# Altium integrated library NSC Temperature Sensor.IntLib: 111 symbols (part 2 of 3)
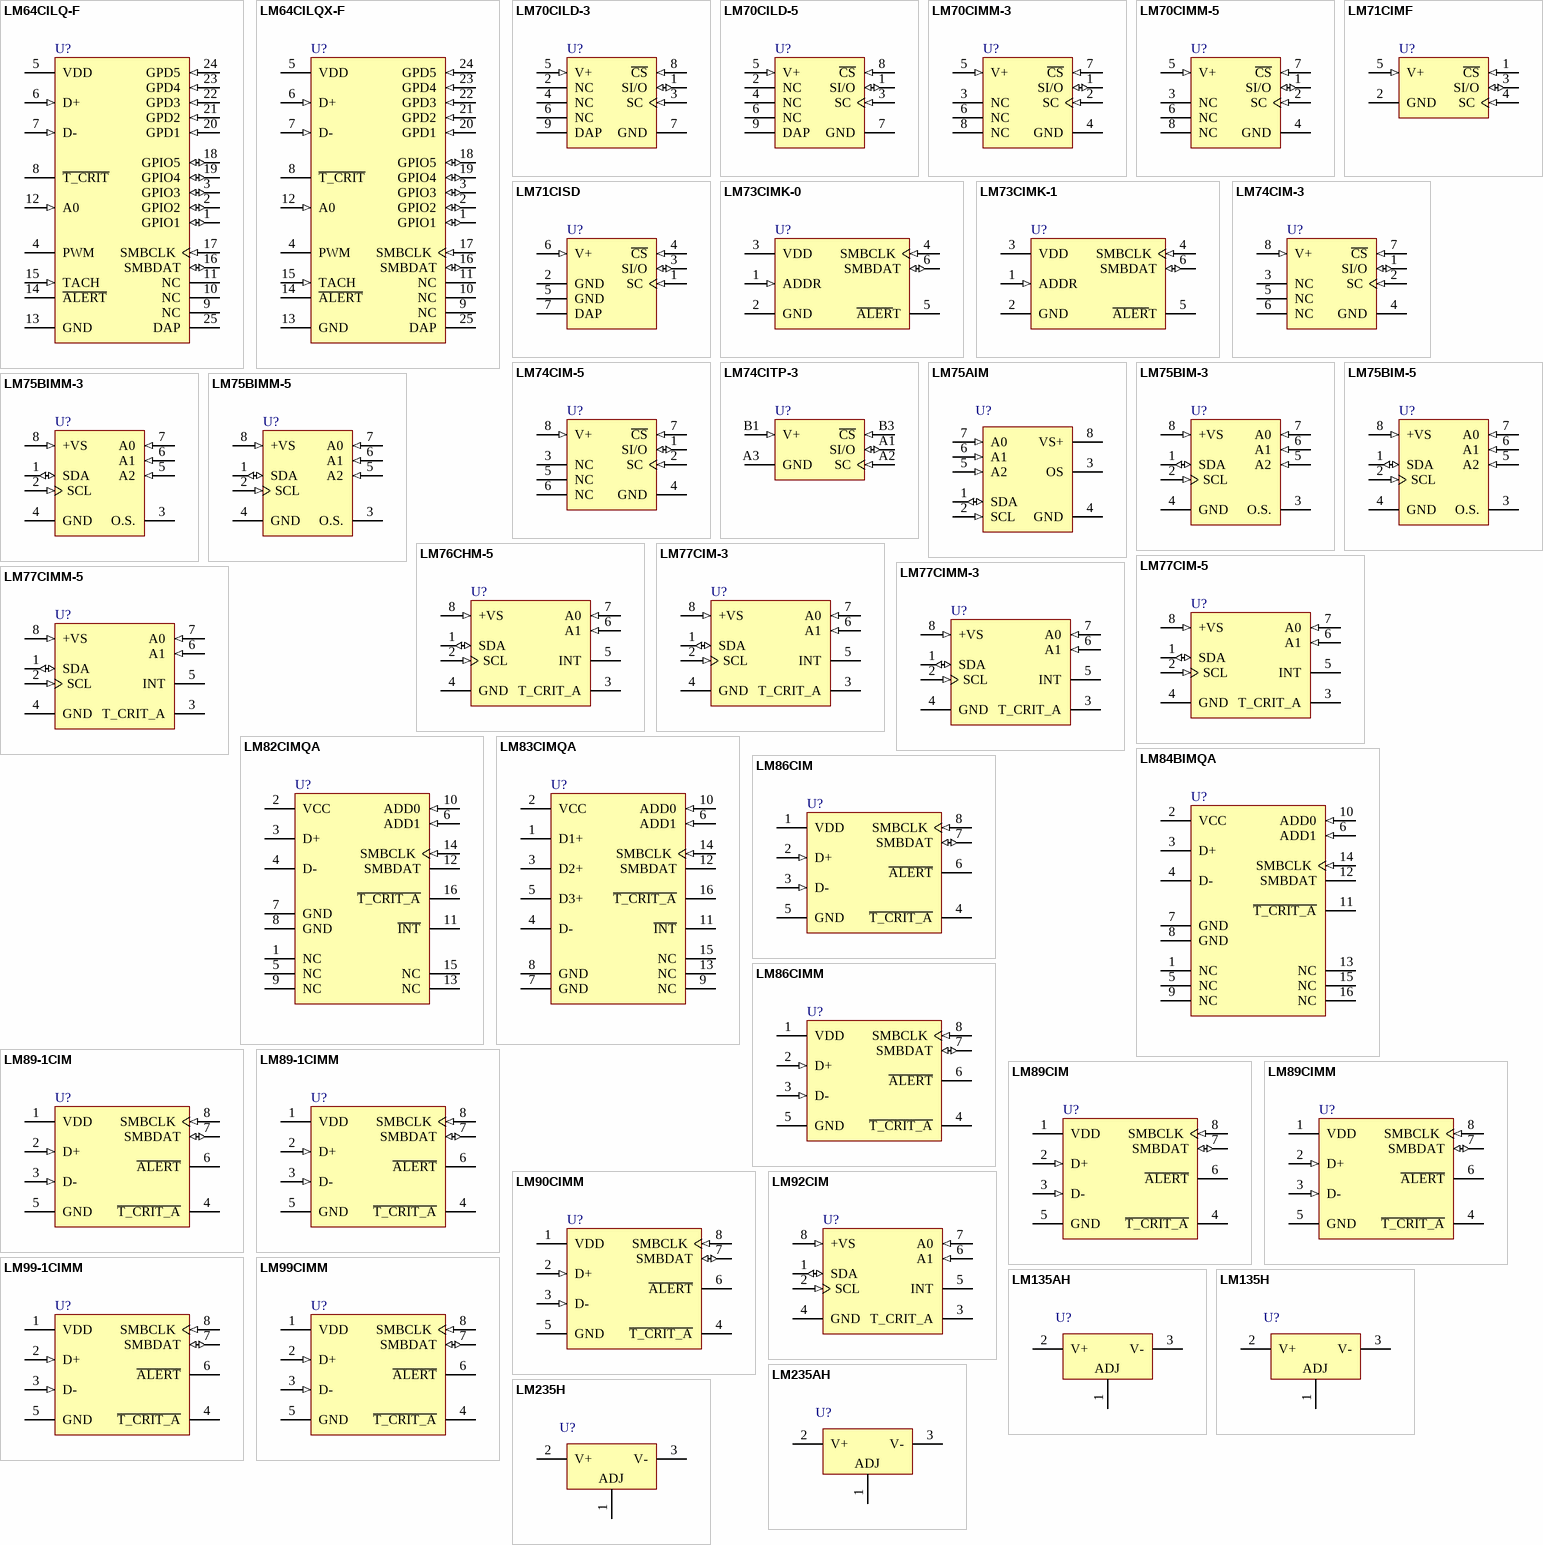
[diagram p3: symbols LM64CILQ-F to LM235H]

## LM71CIMF
designator U?
SPI/MICROWIRE 13-Bit Plus Sign Temperature Sensor; PartNumber: LM71CIMF; Manufacturer: National Semiconductor; CompType: Temp Sensor IC; PackageTopMarking: T16C*XTT; PowerWise: Y; Published: 4-Dec-2008; DatasheetVersion: Feb-2005; PackageVersion: revD, Aug-2008; PackageReference: MF05A; Publisher: Altium Limited; PackageDescription: Molded SOT-23, .115 x .063 x .040 in Body, 5 Lead, .0375 in Pitch; RoHS: O; PinCount: 5; DigiKeyPartNumber: LM71CIMFCT-ND; Code_IPC: SOT23-5; ComponentLink1Description: LM71 Datasheet; ComponentLink1URL: http://www.national.com/ds/LM/LM71.pdf; ComponentLink2Description: LM71 Web Page; ComponentLink2URL: http://www.national.com/pf/LM/LM71.html; ComponentLink3Description: MF05A Package Page; ComponentLink3URL: http://www.national.com/packaging/folders/mf05a.html
footprint MF05A_N (SOT23, 5-Leads, Body 2.9x1.6mm, Pitch 0.95mm, Lead Span 2.8mm, IPC Medium Density)
footprint MF05A_L (SOT23, 5-Leads, Body 2.9x1.6mm, Pitch 0.95mm, Lead Span 2.8mm, IPC High Density)
footprint MF05A_M (SOT23, 5-Leads, Body 2.9x1.6mm, Pitch 0.95mm, Lead Span 2.8mm, IPC Low Density)
pins: 1 ~{CS} (in), 2 GND (power), 3 SI/O (io), 4 SC (in), 5 V+ (in)

## LM71CISD
designator U?
SPI/MICROWIRE 13-Bit Plus Sign Temperature Sensor; PartNumber: LM71CISD; Manufacturer: National Semiconductor; CompType: Temp Sensor IC; PackageTopMarking: ZXYTT*L71CI; PowerWise: Y; Published: 4-Dec-2008; DatasheetVersion: Feb-2005; PackageVersion: revA, Jul-2003; PackageReference: SDE06A; Publisher: Altium Limited; PackageDescription: LLP, Plastic, Dual, 3 x 3 x 0.8mm Body, 6 Lead, 0.95mm Pitch, No Pullback; RoHS: Y; PinCount: 6; DigiKeyPartNumber: LM71CISDCT-ND; ComponentLink1Description: LM71 Datasheet; ComponentLink1URL: http://www.national.com/ds/LM/LM71.pdf; ComponentLink2Description: LM71 Web Page; ComponentLink2URL: http://www.national.com/pf/LM/LM71.html; ComponentLink3Description: SDE06A Package Page; ComponentLink3URL: http://www.national.com/packaging/folders/sde06a.html
footprint SDE06A_full (SON, 6-Leads, Body 3x3 mm, Pitch 0.95mm, Full Paste, NSC Recommended)
footprint SDE06A_quad (SON, 6-Leads, Body 3x3 mm, Pitch 0.95mm, Quad Paste, NSC Recommended)
pins: 1 SC (in), 2 GND (power), 3 SI/O (io), 4 ~{CS} (in), 5 GND (power), 6 V+ (in), 7 DAP (power)

## LM73CIMK-0
designator U?
2.7V, SOT-23, 11- to 14- Bit Digital Temperature Sensor with 2-Wire Interface; PartNumber: LM73CIMK-0; Manufacturer: National Semiconductor; CompType: Temp Sensor IC; PackageTopMarking: T730*XTT; PowerWise: Y; Published: 4-Dec-2008; DatasheetVersion: Jul-2006; PackageVersion: revD, Jul-2005; PackageReference: MK06A; Publisher: Altium Limited; PackageDescription: Molded TSOT, 2.97 x 1.65 x 0.87mm Body, 6 Lead, 0.95mm Pitch; RoHS: Y; PinCount: 6; DigiKeyPartNumber: LM73CIMK-0CT-ND; Code_JEDEC: MO-193-AA; Code_IPC: SOT26A-6; ComponentLink1Description: LM73 Datasheet; ComponentLink1URL: http://www.national.com/ds/LM/LM73.pdf; ComponentLink2Description: LM73 Web Page; ComponentLink2URL: http://www.national.com/pf/LM/LM73.html; ComponentLink3Description: MK06A Package Page; ComponentLink3URL: http://www.national.com/packaging/folders/mk06a.html
footprint MK06A_N (SOT23, 6-Leads, Body 3.0x1.7mm, Pitch 0.95mm, Lead Span 2.9mm, IPC Medium Density)
footprint MK06A_L (SOT23, 6-Leads, Body 3.0x1.7mm, Pitch 0.95mm, Lead Span 2.9mm, IPC High Density)
footprint MK06A_M (SOT23, 6-Leads, Body 3.0x1.7mm, Pitch 0.95mm, Lead Span 2.9mm, IPC Low Density)
pins: 1 ADDR (in), 2 GND (power), 3 VDD (power), 4 SMBCLK (in), 5 ~{ALER}T (oc), 6 SMBDAT (io)

## LM73CIMK-1
designator U?
2.7V, SOT-23, 11- to 14- Bit Digital Temperature Sensor with 2-Wire Interface; PartNumber: LM73CIMK-1; Manufacturer: National Semiconductor; CompType: Temp Sensor IC; PackageTopMarking: T731*XTT; PowerWise: Y; Published: 4-Dec-2008; DatasheetVersion: Jul-2006; PackageVersion: revD, Jul-2005; PackageReference: MK06A; Publisher: Altium Limited; PackageDescription: Molded TSOT, 2.97 x 1.65 x 0.87mm Body, 6 Lead, 0.95mm Pitch; RoHS: Y; PinCount: 6; DigiKeyPartNumber: LM73CIMK-1CT-ND; Code_JEDEC: MO-193-AA; Code_IPC: SOT26A-6; ComponentLink1Description: LM73 Datasheet; ComponentLink1URL: http://www.national.com/ds/LM/LM73.pdf; ComponentLink2Description: LM73 Web Page; ComponentLink2URL: http://www.national.com/pf/LM/LM73.html; ComponentLink3Description: MK06A Package Page; ComponentLink3URL: http://www.national.com/packaging/folders/mk06a.html
footprint MK06A_N (SOT23, 6-Leads, Body 3.0x1.7mm, Pitch 0.95mm, Lead Span 2.9mm, IPC Medium Density)
footprint MK06A_L (SOT23, 6-Leads, Body 3.0x1.7mm, Pitch 0.95mm, Lead Span 2.9mm, IPC High Density)
footprint MK06A_M (SOT23, 6-Leads, Body 3.0x1.7mm, Pitch 0.95mm, Lead Span 2.9mm, IPC Low Density)
pins: 1 ADDR (in), 2 GND (power), 3 VDD (power), 4 SMBCLK (in), 5 ~{ALER}T (oc), 6 SMBDAT (io)

## LM74CIM-3
designator U?
SPI/MICROWIRE 12-Bit Plus Sign Temperature Sensor; PartNumber: LM74CIM-3; Manufacturer: National Semiconductor; CompType: Temp Sensor IC; PackageTopMarking: NSZXTT*LM74*CIM3; PowerWise: N; Published: 4-Dec-2008; DatasheetVersion: May-2005; PackageVersion: revL, Sep-2006; PackageReference: M08A; Publisher: Altium Limited; PackageDescription: SOIC Narrow, 4.9 x 3.9 x 1.45mm, 8 Lead, 1.27mm Pitch; RoHS: O; PinCount: 8; DigiKeyPartNumber: LM74CIM-3-ND; Code_JEDEC: MS-012-AA; Code_IPC: SOIC127P600-8; ComponentLink1Description: LM74 Datasheet; ComponentLink1URL: http://www.national.com/ds/LM/LM74.pdf; ComponentLink2Description: LM74 Web Page; ComponentLink2URL: http://www.national.com/pf/LM/LM74.html; ComponentLink3Description: M08A Package Page; ComponentLink3URL: http://www.national.com/packaging/folders/m08a.html
footprint M08A_N (SOIC, 8-Leads, Body 4.9x3.9mm, Pitch 1.27mm, IPC Medium Density)
footprint M08A_L (SOIC, 8-Leads, Body 4.9x3.9mm, Pitch 1.27mm, IPC High Density)
footprint M08A_M (SOIC, 8-Leads, Body 4.9x3.9mm, Pitch 1.27mm, IPC Low Density)
pins: 1 SI/O (io), 2 SC (in), 3 NC, 4 GND (power), 5 NC, 6 NC, 7 ~{CS} (in), 8 V+ (in)

## LM74CIM-5
designator U?
SPI/MICROWIRE 12-Bit Plus Sign Temperature Sensor; PartNumber: LM74CIM-5; Manufacturer: National Semiconductor; CompType: Temp Sensor IC; PackageTopMarking: NSZXTT*LM74*CIM5; PowerWise: N; Published: 4-Dec-2008; DatasheetVersion: May-2005; PackageVersion: revL, Sep-2006; PackageReference: M08A; Publisher: Altium Limited; PackageDescription: SOIC Narrow, 4.9 x 3.9 x 1.45mm, 8 Lead, 1.27mm Pitch; RoHS: O; PinCount: 8; DigiKeyPartNumber: LM74CIM-5-ND; Code_JEDEC: MS-012-AA; Code_IPC: SOIC127P600-8; ComponentLink1Description: LM74 Datasheet; ComponentLink1URL: http://www.national.com/ds/LM/LM74.pdf; ComponentLink2Description: LM74 Web Page; ComponentLink2URL: http://www.national.com/pf/LM/LM74.html; ComponentLink3Description: M08A Package Page; ComponentLink3URL: http://www.national.com/packaging/folders/m08a.html
footprint M08A_N (SOIC, 8-Leads, Body 4.9x3.9mm, Pitch 1.27mm, IPC Medium Density)
footprint M08A_L (SOIC, 8-Leads, Body 4.9x3.9mm, Pitch 1.27mm, IPC High Density)
footprint M08A_M (SOIC, 8-Leads, Body 4.9x3.9mm, Pitch 1.27mm, IPC Low Density)
pins: 1 SI/O (io), 2 SC (in), 3 NC, 4 GND (power), 5 NC, 6 NC, 7 ~{CS} (in), 8 V+ (in)

## LM74CITP-3
designator U?
SPI/MICROWIRE 12-Bit Plus Sign Temperature Sensor; PartNumber: LM74CITP-3; Manufacturer: National Semiconductor; CompType: Temp Sensor IC; PackageTopMarking: XV*I 10; PowerWise: N; Published: 4-Dec-2008; DatasheetVersion: May-2005; PackageVersion: revA, Apr-2005; PackageReference: TPD05QSA; Publisher: Altium Limited; PackageDescription: Thin Micro SMD, 5 Bump, 1.0mm Pitch; RoHS: Y; PinCount: 5; DigiKeyPartNumber: LM74CITP-3-ND; ComponentLink1Description: LM74 Datasheet; ComponentLink1URL: http://www.national.com/ds/LM/LM74.pdf; ComponentLink2Description: LM74 Web Page; ComponentLink2URL: http://www.national.com/pf/LM/LM74.html; ComponentLink3Description: TPD05QSA Package Page; ComponentLink3URL: http://www.national.com/packaging/folders/tpd05qsa.html
footprint TPD05QSA (Micro SMD, 5-Leads, Body 1.59x1.64mm, Pitch 0.5mm, NSC Recommended)
pins: A1 SI/O (io), A2 SC (in), A3 GND (power), B1 V+ (in), B3 ~{CS} (in)

## LM75AIM
designator U?
Digital Temperature Sensor and Thermal Watchdog with Two-Wire Interface; PartNumber: LM75AIM; Manufacturer: National Semiconductor; CompType: Temp Sensor IC; PackageTopMarking: NSZXTT*LM75*AIM; PowerWise: N; Published: 29-May-2009; DatasheetVersion: Jan-2009; PackageVersion: revL, Sep-2006; PackageReference: M08A; Publisher: Altium Limited; PackageDescription: SOIC Narrow, 4.9 x 3.9 x 1.45mm, 8 Lead, 1.27mm Pitch; RoHS: Y; PinCount: 8; DigiKeyPartNumber: LM75AIM-ND; Code_JEDEC: MS-012-AA; Code_IPC: SOIC127P600-8; ComponentLink1Description: LM75 Datasheet; ComponentLink1URL: http://www.national.com/ds/LM/LM75.pdf; ComponentLink2Description: LM75 Web Page; ComponentLink2URL: http://www.national.com/pf/LM/LM75.html; ComponentLink3Description: M08A Package Page; ComponentLink3URL: http://www.national.com/packaging/folders/m08a.html
footprint M08A_N (SOIC, 8-Leads, Body 4.9x3.9mm, Pitch 1.27mm, IPC Medium Density)
footprint M08A_L (SOIC, 8-Leads, Body 4.9x3.9mm, Pitch 1.27mm, IPC High Density)
footprint M08A_M (SOIC, 8-Leads, Body 4.9x3.9mm, Pitch 1.27mm, IPC Low Density)
pins: 1 SDA (io), 2 SCL (in), 3 OS (oc), 4 GND (power), 5 A2 (in), 6 A1 (in), 7 A0 (in), 8 VS+ (power)

## LM75BIM-3
designator U?
Digital Temperature Sensor and Thermal Watchdog with Two-Wire Interface; PartNumber: LM75BIM-3; Manufacturer: National Semiconductor; CompType: Temp Sensor IC; PackageTopMarking: NSZXTT*LM75*BIM-3; PowerWise: N; Published: 4-Dec-2008; DatasheetVersion: Oct-2005; PackageVersion: revL, Sep-2006; PackageReference: M08A; Publisher: Altium Limited; PackageDescription: SOIC Narrow, 4.9 x 3.9 x 1.45mm, 8 Lead, 1.27mm Pitch; RoHS: O; PinCount: 8; DigiKeyPartNumber: LM75BIM-3-ND; Code_JEDEC: MS-012-AA; Code_IPC: SOIC127P600-8; ComponentLink1Description: LM75 Datasheet; ComponentLink1URL: http://www.national.com/ds/LM/LM75.pdf; ComponentLink2Description: LM75 Web Page; ComponentLink2URL: http://www.national.com/pf/LM/LM75.html; ComponentLink3Description: M08A Package Page; ComponentLink3URL: http://www.national.com/packaging/folders/m08a.html
footprint M08A_N (SOIC, 8-Leads, Body 4.9x3.9mm, Pitch 1.27mm, IPC Medium Density)
footprint M08A_L (SOIC, 8-Leads, Body 4.9x3.9mm, Pitch 1.27mm, IPC High Density)
footprint M08A_M (SOIC, 8-Leads, Body 4.9x3.9mm, Pitch 1.27mm, IPC Low Density)
pins: 1 SDA (io), 2 SCL (in), 3 O.S. (oc), 4 GND (power), 5 A2 (in), 6 A1 (in), 7 A0 (in), 8 +VS (in)

## LM75BIM-5
designator U?
Digital Temperature Sensor and Thermal Watchdog with Two-Wire Interface; PartNumber: LM75BIM-5; Manufacturer: National Semiconductor; CompType: Temp Sensor IC; PackageTopMarking: NSZXTT*LM75*BIM-5; PowerWise: N; Published: 4-Dec-2008; DatasheetVersion: Oct-2005; PackageVersion: revL, Sep-2006; PackageReference: M08A; Publisher: Altium Limited; PackageDescription: SOIC Narrow, 4.9 x 3.9 x 1.45mm, 8 Lead, 1.27mm Pitch; RoHS: O; PinCount: 8; DigiKeyPartNumber: LM75BIM-5-ND; Code_JEDEC: MS-012-AA; Code_IPC: SOIC127P600-8; ComponentLink1Description: LM75 Datasheet; ComponentLink1URL: http://www.national.com/ds/LM/LM75.pdf; ComponentLink2Description: LM75 Web Page; ComponentLink2URL: http://www.national.com/pf/LM/LM75.html; ComponentLink3Description: M08A Package Page; ComponentLink3URL: http://www.national.com/packaging/folders/m08a.html
footprint M08A_N (SOIC, 8-Leads, Body 4.9x3.9mm, Pitch 1.27mm, IPC Medium Density)
footprint M08A_L (SOIC, 8-Leads, Body 4.9x3.9mm, Pitch 1.27mm, IPC High Density)
footprint M08A_M (SOIC, 8-Leads, Body 4.9x3.9mm, Pitch 1.27mm, IPC Low Density)
pins: 1 SDA (io), 2 SCL (in), 3 O.S. (oc), 4 GND (power), 5 A2 (in), 6 A1 (in), 7 A0 (in), 8 +VS (in)

## LM75BIMM-3
designator U?
Digital Temperature Sensor and Thermal Watchdog with Two-Wire Interface; PartNumber: LM75BIMM-3; Manufacturer: National Semiconductor; CompType: Temp Sensor IC; PackageTopMarking: ZXTT*T01B; PowerWise: N; Published: 4-Dec-2008; DatasheetVersion: Oct-2005; PackageVersion: revF, Apr-2008; PackageReference: MUA08A; Publisher: Altium Limited; PackageDescription: MINI SOIC, .118 x .118 x .034in, 8 Lead, .0256in Pitch; RoHS: O; PinCount: 8; DigiKeyPartNumber: LM75BIMM-3-ND; Code_JEDEC: MO-187-AA; ComponentLink1Description: LM75 Datasheet; ComponentLink1URL: http://www.national.com/ds/LM/LM75.pdf; ComponentLink2Description: LM75 Web Page; ComponentLink2URL: http://www.national.com/pf/LM/LM75.html; ComponentLink3Description: MUA08A Package Page; ComponentLink3URL: http://www.national.com/packaging/folders/mua08a.html
footprint MUA08A_N (TSOP, 8-Leads, Body 3x3mm, Pitch 0.65mm, IPC Medium Density)
footprint MUA08A_L (TSOP, 8-Leads, Body 3x3mm, Pitch 0.65mm, IPC High Density)
footprint MUA08A_M (TSOP, 8-Leads, Body 3x3mm, Pitch 0.65mm, IPC Low Density)
pins: 1 SDA (io), 2 SCL (in), 3 O.S. (oc), 4 GND (power), 5 A2 (in), 6 A1 (in), 7 A0 (in), 8 +VS (in)

## LM75BIMM-5
designator U?
Digital Temperature Sensor and Thermal Watchdog with Two-Wire Interface; PartNumber: LM75BIMM-5; Manufacturer: National Semiconductor; CompType: Temp Sensor IC; PackageTopMarking: ZXTT*T00B; PowerWise: N; Published: 4-Dec-2008; DatasheetVersion: Oct-2005; PackageVersion: revF, Apr-2008; PackageReference: MUA08A; Publisher: Altium Limited; PackageDescription: MINI SOIC, .118 x .118 x .034in, 8 Lead, .0256in Pitch; RoHS: Y; PinCount: 8; DigiKeyPartNumber: LM75BIMM-5-ND; Code_JEDEC: MO-187-AA; ComponentLink1Description: LM75 Datasheet; ComponentLink1URL: http://www.national.com/ds/LM/LM75.pdf; ComponentLink2Description: LM75 Web Page; ComponentLink2URL: http://www.national.com/pf/LM/LM75.html; ComponentLink3Description: MUA08A Package Page; ComponentLink3URL: http://www.national.com/packaging/folders/mua08a.html
footprint MUA08A_N (TSOP, 8-Leads, Body 3x3mm, Pitch 0.65mm, IPC Medium Density)
footprint MUA08A_L (TSOP, 8-Leads, Body 3x3mm, Pitch 0.65mm, IPC High Density)
footprint MUA08A_M (TSOP, 8-Leads, Body 3x3mm, Pitch 0.65mm, IPC Low Density)
pins: 1 SDA (io), 2 SCL (in), 3 O.S. (oc), 4 GND (power), 5 A2 (in), 6 A1 (in), 7 A0 (in), 8 +VS (in)

## LM76CHM-5
designator U?
±0.5ºC, ±1ºC, 12-Bit + Sign Digital Temperature Sensor and Thermal Window Comparator with Two-Wire Interface; PartNumber: LM76CHM-5; Manufacturer: National Semiconductor; CompType: Temp Sensor IC; PackageTopMarking: NSZXTT*LM76*CHM-5; PowerWise: N; Published: 4-Dec-2008; DatasheetVersion: Jan-2000; PackageVersion: revL, Sep-2006; PackageReference: M08A; Publisher: Altium Limited; PackageDescription: SOIC Narrow, 4.9 x 3.9 x 1.45mm, 8 Lead, 1.27mm Pitch; RoHS: Y; PinCount: 8; DigiKeyPartNumber: LM76CHM-5-ND; Code_JEDEC: MS-012-AA; Code_IPC: SOIC127P600-8; ComponentLink1Description: LM76 Datasheet; ComponentLink1URL: http://www.national.com/ds/LM/LM76.pdf; ComponentLink2Description: LM76 Web Page; ComponentLink2URL: http://www.national.com/pf/LM/LM76.html; ComponentLink3Description: M08A Package Page; ComponentLink3URL: http://www.national.com/packaging/folders/m08a.html
footprint M08A_N (SOIC, 8-Leads, Body 4.9x3.9mm, Pitch 1.27mm, IPC Medium Density)
footprint M08A_L (SOIC, 8-Leads, Body 4.9x3.9mm, Pitch 1.27mm, IPC High Density)
footprint M08A_M (SOIC, 8-Leads, Body 4.9x3.9mm, Pitch 1.27mm, IPC Low Density)
pins: 1 SDA (io), 2 SCL (in), 3 T_CRIT_A (oc), 4 GND (power), 5 INT (oc), 6 A1 (in), 7 A0 (in), 8 +VS (in)

## LM77CIM-3
designator U?
9-Bit + Sign Digital Temperature Sensor and Thermal Window Comparator with Two-Wire Interface; PartNumber: LM77CIM-3; Manufacturer: National Semiconductor; CompType: Temp Sensor IC; PackageTopMarking: NSZXTT*LM77*CIM-3; PowerWise: N; Published: 4-Dec-2008; DatasheetVersion: Jul-2001; PackageVersion: revL, Sep-2006; PackageReference: M08A; Publisher: Altium Limited; PackageDescription: SOIC Narrow, 4.9 x 3.9 x 1.45mm, 8 Lead, 1.27mm Pitch; RoHS: O; PinCount: 8; DigiKeyPartNumber: LM77CIM-3-ND; Code_JEDEC: MS-012-AA; Code_IPC: SOIC127P600-8; ComponentLink1Description: LM77 Datasheet; ComponentLink1URL: http://www.national.com/ds/LM/LM77.pdf; ComponentLink2Description: LM77 Web Page; ComponentLink2URL: http://www.national.com/pf/LM/LM77.html; ComponentLink3Description: M08A Package Page; ComponentLink3URL: http://www.national.com/packaging/folders/m08a.html
footprint M08A_N (SOIC, 8-Leads, Body 4.9x3.9mm, Pitch 1.27mm, IPC Medium Density)
footprint M08A_L (SOIC, 8-Leads, Body 4.9x3.9mm, Pitch 1.27mm, IPC High Density)
footprint M08A_M (SOIC, 8-Leads, Body 4.9x3.9mm, Pitch 1.27mm, IPC Low Density)
pins: 1 SDA (io), 2 SCL (in), 3 T_CRIT_A (oc), 4 GND (power), 5 INT (oc), 6 A1 (in), 7 A0 (in), 8 +VS (in)

## LM77CIM-5
designator U?
9-Bit + Sign Digital Temperature Sensor and Thermal Window Comparator with Two-Wire Interface; PartNumber: LM77CIM-5; Manufacturer: National Semiconductor; CompType: Temp Sensor IC; PackageTopMarking: NSZXTT*LM77*CIM-5; PowerWise: N; Published: 4-Dec-2008; DatasheetVersion: Jul-2001; PackageVersion: revL, Sep-2006; PackageReference: M08A; Publisher: Altium Limited; PackageDescription: SOIC Narrow, 4.9 x 3.9 x 1.45mm, 8 Lead, 1.27mm Pitch; RoHS: O; PinCount: 8; DigiKeyPartNumber: LM77CIM-5-ND; Code_JEDEC: MS-012-AA; Code_IPC: SOIC127P600-8; ComponentLink1Description: LM77 Datasheet; ComponentLink1URL: http://www.national.com/ds/LM/LM77.pdf; ComponentLink2Description: LM77 Web Page; ComponentLink2URL: http://www.national.com/pf/LM/LM77.html; ComponentLink3Description: M08A Package Page; ComponentLink3URL: http://www.national.com/packaging/folders/m08a.html
footprint M08A_N (SOIC, 8-Leads, Body 4.9x3.9mm, Pitch 1.27mm, IPC Medium Density)
footprint M08A_L (SOIC, 8-Leads, Body 4.9x3.9mm, Pitch 1.27mm, IPC High Density)
footprint M08A_M (SOIC, 8-Leads, Body 4.9x3.9mm, Pitch 1.27mm, IPC Low Density)
pins: 1 SDA (io), 2 SCL (in), 3 T_CRIT_A (oc), 4 GND (power), 5 INT (oc), 6 A1 (in), 7 A0 (in), 8 +VS (in)

## LM77CIMM-3
designator U?
9-Bit + Sign Digital Temperature Sensor and Thermal Window Comparator with Two-Wire Interface; PartNumber: LM77CIMM-3; Manufacturer: National Semiconductor; CompType: Temp Sensor IC; PackageTopMarking: ZXTT*T06C; PowerWise: N; Published: 4-Dec-2008; DatasheetVersion: Jul-2001; PackageVersion: revF, Apr-2008; PackageReference: MUA08A; Publisher: Altium Limited; PackageDescription: MINI SOIC, .118 x .118 x .034in, 8 Lead, .0256in Pitch; RoHS: O; PinCount: 8; DigiKeyPartNumber: LM77CIMM-3CT-ND; Code_JEDEC: MO-187-AA; ComponentLink1Description: LM77 Datasheet; ComponentLink1URL: http://www.national.com/ds/LM/LM77.pdf; ComponentLink2Description: LM77 Web Page; ComponentLink2URL: http://www.national.com/pf/LM/LM77.html; ComponentLink3Description: MUA08A Package Page; ComponentLink3URL: http://www.national.com/packaging/folders/mua08a.html
footprint MUA08A_N (TSOP, 8-Leads, Body 3x3mm, Pitch 0.65mm, IPC Medium Density)
footprint MUA08A_L (TSOP, 8-Leads, Body 3x3mm, Pitch 0.65mm, IPC High Density)
footprint MUA08A_M (TSOP, 8-Leads, Body 3x3mm, Pitch 0.65mm, IPC Low Density)
pins: 1 SDA (io), 2 SCL (in), 3 T_CRIT_A (oc), 4 GND (power), 5 INT (oc), 6 A1 (in), 7 A0 (in), 8 +VS (in)

## LM77CIMM-5
designator U?
9-Bit + Sign Digital Temperature Sensor and Thermal Window Comparator with Two-Wire Interface; PartNumber: LM77CIMM-5; Manufacturer: National Semiconductor; CompType: Temp Sensor IC; PackageTopMarking: ZXTT*T07C; PowerWise: N; Published: 4-Dec-2008; DatasheetVersion: Jul-2001; PackageVersion: revF, Apr-2008; PackageReference: MUA08A; Publisher: Altium Limited; PackageDescription: MINI SOIC, .118 x .118 x .034in, 8 Lead, .0256in Pitch; RoHS: Y; PinCount: 8; DigiKeyPartNumber: LM77CIMM-5CT-ND; Code_JEDEC: MO-187-AA; ComponentLink1Description: LM77 Datasheet; ComponentLink1URL: http://www.national.com/ds/LM/LM77.pdf; ComponentLink2Description: LM77 Web Page; ComponentLink2URL: http://www.national.com/pf/LM/LM77.html; ComponentLink3Description: MUA08A Package Page; ComponentLink3URL: http://www.national.com/packaging/folders/mua08a.html
footprint MUA08A_N (TSOP, 8-Leads, Body 3x3mm, Pitch 0.65mm, IPC Medium Density)
footprint MUA08A_L (TSOP, 8-Leads, Body 3x3mm, Pitch 0.65mm, IPC High Density)
footprint MUA08A_M (TSOP, 8-Leads, Body 3x3mm, Pitch 0.65mm, IPC Low Density)
pins: 1 SDA (io), 2 SCL (in), 3 T_CRIT_A (oc), 4 GND (power), 5 INT (oc), 6 A1 (in), 7 A0 (in), 8 +VS (in)

## LM82CIMQA
designator U?
Remote Diode and Local Digital Temperature Sensor with Two-Wire Interface; PartNumber: LM82CIMQA; Manufacturer: National Semiconductor; CompType: Temp Sensor IC; PackageTopMarking: NSXYTT*82CI*MQA; PowerWise: N; Published: 4-Dec-2008; DatasheetVersion: Aug-2004; PackageVersion: revB, Jan-2005; PackageReference: MQA16; Publisher: Altium Limited; PackageDescription: SSOP, .150in Body Width, .025in Pitch, 16 Lead; RoHS: O; PinCount: 16; DigiKeyPartNumber: LM82CIMQA-ND; Code_JEDEC: MO-137-AB; ComponentLink1Description: LM82 Datasheet; ComponentLink1URL: http://www.national.com/ds/LM/LM82.pdf; ComponentLink2Description: LM82 Web Page; ComponentLink2URL: http://www.national.com/pf/LM/LM82.html; ComponentLink3Description: MQA16 Package Page; ComponentLink3URL: http://www.national.com/packaging/folders/mqa16.html
footprint MQA16_N (SOP, 16-Leads, Body 4.9x3.9mm, Pitch 0.635mm, IPC Medium Density)
footprint MQA16_L (SOP, 16-Leads, Body 4.9x3.9mm, Pitch 0.635mm, IPC High Density)
footprint MQA16_M (SOP, 16-Leads, Body 4.9x3.9mm, Pitch 0.635mm, IPC Low Density)
pins: 1 NC, 2 VCC (power), 3 D+, 4 D-, 5 NC, 6 ADD1 (in), 7 GND (power), 8 GND (power), 9 NC "Test Pin", 10 ADD0 (in), 11 ~{INT} (oc), 12 SMBDAT (oc), 13 NC "Test Pin", 14 SMBCLK (in), 15 NC "Test Pin", 16 ~{T_CRIT_A} (oc)

## LM83CIMQA
designator U?
3 Diode Input ACPI Compatible Digital Temperature Sensor with Two-Wire Interface; PartNumber: LM83CIMQA; Manufacturer: National Semiconductor; CompType: Temp Sensor IC; PackageTopMarking: NSXYTT*83CI*MQA; PowerWise: N; Published: 4-Dec-2008; DatasheetVersion: Nov-1999; PackageVersion: revB, Jan-2005; PackageReference: MQA16; Publisher: Altium Limited; PackageDescription: SSOP, .150in Body Width, .025in Pitch, 16 Lead; RoHS: O; PinCount: 16; DigiKeyPartNumber: LM83CIMQA-ND; Code_JEDEC: MO-137-AB; ComponentLink1Description: LM83 Datasheet; ComponentLink1URL: http://www.national.com/ds/LM/LM83.pdf; ComponentLink2Description: LM83 Web Page; ComponentLink2URL: http://www.national.com/pf/LM/LM83.html; ComponentLink3Description: MQA16 Package Page; ComponentLink3URL: http://www.national.com/packaging/folders/mqa16.html
footprint MQA16_N (SOP, 16-Leads, Body 4.9x3.9mm, Pitch 0.635mm, IPC Medium Density)
footprint MQA16_L (SOP, 16-Leads, Body 4.9x3.9mm, Pitch 0.635mm, IPC High Density)
footprint MQA16_M (SOP, 16-Leads, Body 4.9x3.9mm, Pitch 0.635mm, IPC Low Density)
pins: 1 D1+, 2 VCC (power), 3 D2+, 4 D-, 5 D3+, 6 ADD1 (in), 7 GND (power), 8 GND (power), 9 NC "Test Pin", 10 ADD0 (in), 11 ~{INT} (oc), 12 SMBDAT (oc), 13 NC "Test Pin", 14 SMBCLK (in), 15 NC "Test Pin", 16 ~{T_CRIT_A} (oc)

## LM84BIMQA
designator U?
Diode Input Digital Temperature Sensor with Two-Wire Interface; PartNumber: LM84BIMQA; Manufacturer: National Semiconductor; CompType: Temp Sensor IC; PackageTopMarking: NSXYTT*84BI*MQA; PowerWise: N; Published: 4-Dec-2008; DatasheetVersion: Jul-2000; PackageVersion: revB, Jan-2005; PackageReference: MQA16; Publisher: Altium Limited; PackageDescription: SSOP, .150in Body Width, .025in Pitch, 16 Lead; RoHS: O; PinCount: 16; DigiKeyPartNumber: LM84BIMQA-ND; Code_JEDEC: MO-137-AB; ComponentLink1Description: LM84 Datasheet; ComponentLink1URL: http://www.national.com/ds/LM/LM84.pdf; ComponentLink2Description: LM84 Web Page; ComponentLink2URL: http://www.national.com/pf/LM/LM84.html; ComponentLink3Description: MQA16 Package Page; ComponentLink3URL: http://www.national.com/packaging/folders/mqa16.html
footprint MQA16_N (SOP, 16-Leads, Body 4.9x3.9mm, Pitch 0.635mm, IPC Medium Density)
footprint MQA16_L (SOP, 16-Leads, Body 4.9x3.9mm, Pitch 0.635mm, IPC High Density)
footprint MQA16_M (SOP, 16-Leads, Body 4.9x3.9mm, Pitch 0.635mm, IPC Low Density)
pins: 1 NC, 2 VCC (power), 3 D+, 4 D-, 5 NC, 6 ADD1 (in), 7 GND (power), 8 GND (power), 9 NC "Test Pin", 10 ADD0 (in), 11 ~{T_CRIT_A} (oc), 12 SMBDAT (oc), 13 NC "Test Pin", 14 SMBCLK (in), 15 NC, 16 NC "Test Pin"

## LM86CIM
designator U?
±0.75ºC Accurate, Remote Diode and Local Digital Temperature Sensor with Two-Wire Interface; PartNumber: LM86CIM; Manufacturer: National Semiconductor; CompType: Temp Sensor IC; PackageTopMarking: NSZXTT*LM86*CIM; PowerWise: N; Published: 4-Dec-2008; DatasheetVersion: Apr-2003; PackageVersion: revL, Sep-2006; PackageReference: M08A; Publisher: Altium Limited; PackageDescription: SOIC Narrow, 4.9 x 3.9 x 1.45mm, 8 Lead, 1.27mm Pitch; RoHS: Y; PinCount: 8; DigiKeyPartNumber: LM86CIMMCT-ND; Code_JEDEC: MS-012-AA; Code_IPC: SOIC127P600-8; ComponentLink1Description: LM86 Datasheet; ComponentLink1URL: http://www.national.com/ds/LM/LM86.pdf; ComponentLink2Description: LM86 Web Page; ComponentLink2URL: http://www.national.com/pf/LM/LM86.html; ComponentLink3Description: M08A Package Page; ComponentLink3URL: http://www.national.com/packaging/folders/m08a.html
footprint M08A_N (SOIC, 8-Leads, Body 4.9x3.9mm, Pitch 1.27mm, IPC Medium Density)
footprint M08A_L (SOIC, 8-Leads, Body 4.9x3.9mm, Pitch 1.27mm, IPC High Density)
footprint M08A_M (SOIC, 8-Leads, Body 4.9x3.9mm, Pitch 1.27mm, IPC Low Density)
pins: 1 VDD (power), 2 D+ (in), 3 D- (in), 4 ~{T_CRIT_A} (oc), 5 GND (power), 6 ~{ALERT} (oc), 7 SMBDAT (io), 8 SMBCLK (in)

## LM86CIMM
designator U?
±0.75ºC Accurate, Remote Diode and Local Digital Temperature Sensor with Two-Wire Interface; PartNumber: LM86CIMM; Manufacturer: National Semiconductor; CompType: Temp Sensor IC; PackageTopMarking: ZXTT*T10C; PowerWise: N; Published: 4-Dec-2008; DatasheetVersion: Apr-2003; PackageVersion: revF, Apr-2008; PackageReference: MUA08A; Publisher: Altium Limited; PackageDescription: MINI SOIC, .118 x .118 x .034in, 8 Lead, .0256in Pitch; RoHS: O; PinCount: 8; DigiKeyPartNumber: LM86CIMMCT-ND; Code_JEDEC: MO-187-AA; ComponentLink1Description: LM86 Datasheet; ComponentLink1URL: http://www.national.com/ds/LM/LM86.pdf; ComponentLink2Description: LM86 Web Page; ComponentLink2URL: http://www.national.com/pf/LM/LM86.html; ComponentLink3Description: MUA08A Package Page; ComponentLink3URL: http://www.national.com/packaging/folders/mua08a.html
footprint MUA08A_N (TSOP, 8-Leads, Body 3x3mm, Pitch 0.65mm, IPC Medium Density)
footprint MUA08A_L (TSOP, 8-Leads, Body 3x3mm, Pitch 0.65mm, IPC High Density)
footprint MUA08A_M (TSOP, 8-Leads, Body 3x3mm, Pitch 0.65mm, IPC Low Density)
pins: 1 VDD (power), 2 D+ (in), 3 D- (in), 4 ~{T_CRIT_A} (oc), 5 GND (power), 6 ~{ALERT} (oc), 7 SMBDAT (io), 8 SMBCLK (in)

## LM89-1CIM
designator U?
±0.75ºC Accurate, Remote Diode and Local Digital Temperature Sensor with Two-Wire Interface; PartNumber: LM89-1CIM; Manufacturer: National Semiconductor; CompType: Temp Sensor IC; PackageTopMarking: NSZXTT*LM89*-1CIM; PowerWise: N; Published: 4-Dec-2008; DatasheetVersion: Dec-2004; PackageVersion: revL, Sep-2006; PackageReference: M08A; Publisher: Altium Limited; PackageDescription: SOIC Narrow, 4.9 x 3.9 x 1.45mm, 8 Lead, 1.27mm Pitch; RoHS: N; PinCount: 8; DigiKeyPartNumber: LM89-1CIM-ND; Code_JEDEC: MS-012-AA; Code_IPC: SOIC127P600-8; ComponentLink1Description: LM89 Datasheet; ComponentLink1URL: http://www.national.com/ds/LM/LM89.pdf; ComponentLink2Description: LM89 Web Page; ComponentLink2URL: http://www.national.com/pf/LM/LM89.html; ComponentLink3Description: M08A Package Page; ComponentLink3URL: http://www.national.com/packaging/folders/m08a.html
footprint M08A_N (SOIC, 8-Leads, Body 4.9x3.9mm, Pitch 1.27mm, IPC Medium Density)
footprint M08A_L (SOIC, 8-Leads, Body 4.9x3.9mm, Pitch 1.27mm, IPC High Density)
footprint M08A_M (SOIC, 8-Leads, Body 4.9x3.9mm, Pitch 1.27mm, IPC Low Density)
pins: 1 VDD (power), 2 D+ (in), 3 D- (in), 4 ~{T_CRIT_A} (oc), 5 GND (power), 6 ~{ALERT} (oc), 7 SMBDAT (io), 8 SMBCLK (in)

## LM89-1CIMM
designator U?
±0.75ºC Accurate, Remote Diode and Local Digital Temperature Sensor with Two-Wire Interface; PartNumber: LM89-1CIMM; Manufacturer: National Semiconductor; CompType: Temp Sensor IC; PackageTopMarking: ZXTT*T19C; PowerWise: N; Published: 4-Dec-2008; DatasheetVersion: Dec-2004; PackageVersion: revF, Apr-2008; PackageReference: MUA08A; Publisher: Altium Limited; PackageDescription: MINI SOIC, .118 x .118 x .034in, 8 Lead, .0256in Pitch; RoHS: Y; PinCount: 8; DigiKeyPartNumber: LM89-1CIMM-ND; Code_JEDEC: MO-187-AA; ComponentLink1Description: LM89 Datasheet; ComponentLink1URL: http://www.national.com/ds/LM/LM89.pdf; ComponentLink2Description: LM89 Web Page; ComponentLink2URL: http://www.national.com/pf/LM/LM89.html; ComponentLink3Description: MUA08A Package Page; ComponentLink3URL: http://www.national.com/packaging/folders/mua08a.html
footprint MUA08A_N (TSOP, 8-Leads, Body 3x3mm, Pitch 0.65mm, IPC Medium Density)
footprint MUA08A_L (TSOP, 8-Leads, Body 3x3mm, Pitch 0.65mm, IPC High Density)
footprint MUA08A_M (TSOP, 8-Leads, Body 3x3mm, Pitch 0.65mm, IPC Low Density)
pins: 1 VDD (power), 2 D+ (in), 3 D- (in), 4 ~{T_CRIT_A} (oc), 5 GND (power), 6 ~{ALERT} (oc), 7 SMBDAT (io), 8 SMBCLK (in)

## LM89CIM
designator U?
±0.75ºC Accurate, Remote Diode and Local Digital Temperature Sensor with Two-Wire Interface; PartNumber: LM89CIM; Manufacturer: National Semiconductor; CompType: Temp Sensor IC; PackageTopMarking: NSZXTT*LM89*CIM; Published: 4-Dec-2008; DatasheetVersion: Dec-2004; PackageVersion: revL, Sep-2006; PackageReference: M08A; Publisher: Altium Limited; PackageDescription: SOIC Narrow, 4.9 x 3.9 x 1.45mm, 8 Lead, 1.27mm Pitch; RoHS: Y; PinCount: 8; DigiKeyPartNumber: LM89CIM-ND; Code_JEDEC: MS-012-AA; Code_IPC: SOIC127P600-8; ComponentLink1Description: LM89 Datasheet; ComponentLink1URL: http://www.national.com/ds/LM/LM89.pdf; ComponentLink2Description: LM89 Web Page; ComponentLink2URL: http://www.national.com/pf/LM/LM89.html; ComponentLink3Description: M08A Package Page; ComponentLink3URL: http://www.national.com/packaging/folders/m08a.html
footprint M08A_N (SOIC, 8-Leads, Body 4.9x3.9mm, Pitch 1.27mm, IPC Medium Density)
footprint M08A_L (SOIC, 8-Leads, Body 4.9x3.9mm, Pitch 1.27mm, IPC High Density)
footprint M08A_M (SOIC, 8-Leads, Body 4.9x3.9mm, Pitch 1.27mm, IPC Low Density)
pins: 1 VDD (power), 2 D+ (in), 3 D- (in), 4 ~{T_CRIT_A} (oc), 5 GND (power), 6 ~{ALERT} (oc), 7 SMBDAT (io), 8 SMBCLK (in)

## LM89CIMM
designator U?
±0.75ºC Accurate, Remote Diode and Local Digital Temperature Sensor with Two-Wire Interface; PartNumber: LM89CIMM; Manufacturer: National Semiconductor; CompType: Temp Sensor IC; PackageTopMarking: ZXTT*T15C; PowerWise: N; Published: 4-Dec-2008; DatasheetVersion: Dec-2004; PackageVersion: revF, Apr-2008; PackageReference: MUA08A; Publisher: Altium Limited; PackageDescription: MINI SOIC, .118 x .118 x .034in, 8 Lead, .0256in Pitch; RoHS: Y; PinCount: 8; DigiKeyPartNumber: LM89CIMM-ND; Code_JEDEC: MO-187-AA; ComponentLink1Description: LM89 Datasheet; ComponentLink1URL: http://www.national.com/ds/LM/LM89.pdf; ComponentLink2Description: LM89 Web Page; ComponentLink2URL: http://www.national.com/pf/LM/LM89.html; ComponentLink3Description: MUA08A Package Page; ComponentLink3URL: http://www.national.com/packaging/folders/mua08a.html
footprint MUA08A_N (TSOP, 8-Leads, Body 3x3mm, Pitch 0.65mm, IPC Medium Density)
footprint MUA08A_L (TSOP, 8-Leads, Body 3x3mm, Pitch 0.65mm, IPC High Density)
footprint MUA08A_M (TSOP, 8-Leads, Body 3x3mm, Pitch 0.65mm, IPC Low Density)
pins: 1 VDD (power), 2 D+ (in), 3 D- (in), 4 ~{T_CRIT_A} (oc), 5 GND (power), 6 ~{ALERT} (oc), 7 SMBDAT (io), 8 SMBCLK (in)

## LM90CIMM
designator U?
±3ºC Accurate, Remote Diode and Local Digital Temperature Sensor with Two-Wire Interface; PartNumber: LM90CIMM; Manufacturer: National Semiconductor; CompType: Temp Sensor IC; PackageTopMarking: ZXTT*T11C; PowerWise: N; Published: 4-Dec-2008; DatasheetVersion: Feb-2002; PackageVersion: revF, Apr-2008; PackageReference: MUA08A; Publisher: Altium Limited; PackageDescription: MINI SOIC, .118 x .118 x .034in, 8 Lead, .0256in Pitch; RoHS: O; PinCount: 8; DigiKeyPartNumber: LM90CIMMCT-ND; Code_JEDEC: MO-187-AA; ComponentLink1Description: LM90 Datasheet; ComponentLink1URL: http://www.national.com/ds/LM/LM90.pdf; ComponentLink2Description: LM90 Web Page; ComponentLink2URL: http://www.national.com/pf/LM/LM90.html; ComponentLink3Description: MUA08A Package Page; ComponentLink3URL: http://www.national.com/packaging/folders/mua08a.html
footprint MUA08A_N (TSOP, 8-Leads, Body 3x3mm, Pitch 0.65mm, IPC Medium Density)
footprint MUA08A_L (TSOP, 8-Leads, Body 3x3mm, Pitch 0.65mm, IPC High Density)
footprint MUA08A_M (TSOP, 8-Leads, Body 3x3mm, Pitch 0.65mm, IPC Low Density)
pins: 1 VDD (power), 2 D+ (in), 3 D- (in), 4 ~{T_CRIT_A} (oc), 5 GND (power), 6 ~{ALERT} (oc), 7 SMBDAT (io), 8 SMBCLK (in)

## LM92CIM
designator U?
±0.33ºC Accurate, 12-Bit + Sign Temperature Sensor and Thermal Window Comparator with Two-Wire Interface; PartNumber: LM92CIM; Manufacturer: National Semiconductor; CompType: Temp Sensor IC; PackageTopMarking: NSZXTT*LM92*CIM; PowerWise: Y; Published: 4-Dec-2008; DatasheetVersion: Mar-2005; PackageVersion: revL, Sep-2006; PackageReference: M08A; Publisher: Altium Limited; PackageDescription: SOIC Narrow, 4.9 x 3.9 x 1.45mm, 8 Lead, 1.27mm Pitch; RoHS: O; PinCount: 8; DigiKeyPartNumber: LM92CIM-ND; Code_JEDEC: MS-012-AA; Code_IPC: SOIC127P600-8; ComponentLink1Description: LM92 Datasheet; ComponentLink1URL: http://www.national.com/ds/LM/LM92.pdf; ComponentLink2Description: LM92 Web Page; ComponentLink2URL: http://www.national.com/pf/LM/LM92.html; ComponentLink3Description: M08A Package Page; ComponentLink3URL: http://www.national.com/packaging/folders/m08a.html
footprint M08A_N (SOIC, 8-Leads, Body 4.9x3.9mm, Pitch 1.27mm, IPC Medium Density)
footprint M08A_L (SOIC, 8-Leads, Body 4.9x3.9mm, Pitch 1.27mm, IPC High Density)
footprint M08A_M (SOIC, 8-Leads, Body 4.9x3.9mm, Pitch 1.27mm, IPC Low Density)
pins: 1 SDA (io), 2 SCL (in), 3 T_CRIT_A (oc), 4 GND (power), 5 INT (oc), 6 A1 (in), 7 A0 (in), 8 +VS (in)

## LM99-1CIMM
designator U?
±1ºC Accurate, Remote Diode and Local Digital Temperature Sensor with Two-Wire Interface; PartNumber: LM99-1CIMM; Manufacturer: National Semiconductor; CompType: Temp Sensor IC; PackageTopMarking: ZXTT*T20C; PowerWise: Y; Published: 4-Dec-2008; DatasheetVersion: Jul-2003; PackageVersion: revF, Apr-2008; PackageReference: MUA08A; Publisher: Altium Limited; PackageDescription: MINI SOIC, .118 x .118 x .034in, 8 Lead, .0256in Pitch; RoHS: Y; PinCount: 8; DigiKeyPartNumber: LM99-1CIMMCT-ND; Code_JEDEC: MO-187-AA; ComponentLink1Description: LM99 Datasheet; ComponentLink1URL: http://www.national.com/ds/LM/LM99.pdf; ComponentLink2Description: LM99 Web Page; ComponentLink2URL: http://www.national.com/pf/LM/LM99.html; ComponentLink3Description: MUA08A Package Page; ComponentLink3URL: http://www.national.com/packaging/folders/mua08a.html
footprint MUA08A_N (TSOP, 8-Leads, Body 3x3mm, Pitch 0.65mm, IPC Medium Density)
footprint MUA08A_L (TSOP, 8-Leads, Body 3x3mm, Pitch 0.65mm, IPC High Density)
footprint MUA08A_M (TSOP, 8-Leads, Body 3x3mm, Pitch 0.65mm, IPC Low Density)
pins: 1 VDD (power), 2 D+ (in), 3 D- (in), 4 ~{T_CRIT_A} (oc), 5 GND (power), 6 ~{ALERT} (oc), 7 SMBDAT (io), 8 SMBCLK (in)

## LM99CIMM
designator U?
±1ºC Accurate, Remote Diode and Local Digital Temperature Sensor with Two-Wire Interface; PartNumber: LM99CIMM; Manufacturer: National Semiconductor; CompType: Temp Sensor IC; PackageTopMarking: ZXTT*T17C; PowerWise: Y; Published: 4-Dec-2008; DatasheetVersion: Jul-2003; PackageVersion: revF, Apr-2008; PackageReference: MUA08A; Publisher: Altium Limited; PackageDescription: MINI SOIC, .118 x .118 x .034in, 8 Lead, .0256in Pitch; RoHS: O; PinCount: 8; DigiKeyPartNumber: LM99CIMMCT-ND; Code_JEDEC: MO-187-AA; ComponentLink1Description: LM99 Datasheet; ComponentLink1URL: http://www.national.com/ds/LM/LM99.pdf; ComponentLink2Description: LM99 Web Page; ComponentLink2URL: http://www.national.com/pf/LM/LM99.html; ComponentLink3Description: MUA08A Package Page; ComponentLink3URL: http://www.national.com/packaging/folders/mua08a.html
footprint MUA08A_N (TSOP, 8-Leads, Body 3x3mm, Pitch 0.65mm, IPC Medium Density)
footprint MUA08A_L (TSOP, 8-Leads, Body 3x3mm, Pitch 0.65mm, IPC High Density)
footprint MUA08A_M (TSOP, 8-Leads, Body 3x3mm, Pitch 0.65mm, IPC Low Density)
pins: 1 VDD (power), 2 D+ (in), 3 D- (in), 4 ~{T_CRIT_A} (oc), 5 GND (power), 6 ~{ALERT} (oc), 7 SMBDAT (io), 8 SMBCLK (in)

## LM135AH
designator U?
Precision Temperature Sensor; PartNumber: LM135AH; Manufacturer: National Semiconductor; CompType: Temp Sensor IC; PackageTopMarking: NSXYTTE# LM135AH; PowerWise: N; MilaeroCode: 2MC; Published: 29-May-2009; DatasheetVersion: Dec-2008; PackageVersion: revF, Apr-2002; PackageReference: H03H; Publisher: Altium Limited; PackageDescription: Metal Can, TO-46, 3 Lead, .100in Dia, P.C.; RoHS: O; PinCount: 3; DigiKeyPartNumber: LM135AH-ND; Code_JEDEC: TO-46; ComponentLink1Description: LM135A Datasheet; ComponentLink1URL: http://www.national.com/ds/LM/LM135A.pdf; ComponentLink2Description: LM135A Web Page; ComponentLink2URL: http://www.national.com/pf/LM/LM135A.html; ComponentLink3Description: H03H Package Page; ComponentLink3URL: http://www.national.com/packaging/folders/h03h.html
footprint H03H (Can; 3 Leads; Pin Circle Dia. 2.54 mm; Lead Dia. 0.48 mm (max))
pins: 1 ADJ, 2 V+, 3 V-

## LM135H
designator U?
Precision Temperature Sensor; PartNumber: LM135H; Manufacturer: National Semiconductor; CompType: Temp Sensor IC; PackageTopMarking: NSXYTTE# LM135H; PowerWise: N; MilaeroCode: 2MC; Published: 29-May-2009; DatasheetVersion: Dec-2008; PackageVersion: revF, Apr-2002; PackageReference: H03H; Publisher: Altium Limited; PackageDescription: Metal Can, TO-46, 3 Lead, .100in Dia, P.C.; RoHS: O; PinCount: 3; DigiKeyPartNumber: LM135H-ND; Code_JEDEC: TO-46; ComponentLink1Description: LM135 Datasheet; ComponentLink1URL: http://www.national.com/ds/LM/LM135.pdf; ComponentLink2Description: LM135 Web Page; ComponentLink2URL: http://www.national.com/pf/LM/LM135.html; ComponentLink3Description: H03H Package Page; ComponentLink3URL: http://www.national.com/packaging/folders/h03h.html
footprint H03H (Can; 3 Leads; Pin Circle Dia. 2.54 mm; Lead Dia. 0.48 mm (max))
pins: 1 ADJ, 2 V+, 3 V-

## LM235AH
designator U?
Precision Temperature Sensor; PartNumber: LM235AH; Manufacturer: National Semiconductor; CompType: Temp Sensor IC; PackageTopMarking: NSXYTTE# LM235AH; PowerWise: N; MilaeroCode: 2MC; Published: 29-May-2009; DatasheetVersion: Dec-2008; PackageVersion: revF, Apr-2002; PackageReference: H03H; Publisher: Altium Limited; PackageDescription: Metal Can, TO-46, 3 Lead, .100in Dia, P.C.; RoHS: O; PinCount: 3; DigiKeyPartNumber: LM235AH-ND; Code_JEDEC: TO-46; ComponentLink1Description: LM235A Datasheet; ComponentLink1URL: http://www.national.com/ds/LM/LM235A.pdf; ComponentLink2Description: LM235A Web Page; ComponentLink2URL: http://www.national.com/pf/LM/LM235A.html; ComponentLink3Description: H03H Package Page; ComponentLink3URL: http://www.national.com/packaging/folders/h03h.html
footprint H03H (Can; 3 Leads; Pin Circle Dia. 2.54 mm; Lead Dia. 0.48 mm (max))
pins: 1 ADJ, 2 V+, 3 V-

## LM235H
designator U?
Precision Temperature Sensor; PartNumber: LM235H; Manufacturer: National Semiconductor; CompType: Temp Sensor IC; PackageTopMarking: NSXYTTE# LM235H; PowerWise: N; MilaeroCode: 2MC; Published: 29-May-2009; DatasheetVersion: Dec-2008; PackageVersion: revF, Apr-2002; PackageReference: H03H; Publisher: Altium Limited; PackageDescription: Metal Can, TO-46, 3 Lead, .100in Dia, P.C.; RoHS: O; PinCount: 3; DigiKeyPartNumber: LM235H-ND; Code_JEDEC: TO-46; ComponentLink1Description: LM235 Datasheet; ComponentLink1URL: http://www.national.com/ds/LM/LM235.pdf; ComponentLink2Description: LM235 Web Page; ComponentLink2URL: http://www.national.com/pf/LM/LM235.html; ComponentLink3Description: H03H Package Page; ComponentLink3URL: http://www.national.com/packaging/folders/h03h.html
footprint H03H (Can; 3 Leads; Pin Circle Dia. 2.54 mm; Lead Dia. 0.48 mm (max))
pins: 1 ADJ, 2 V+, 3 V-

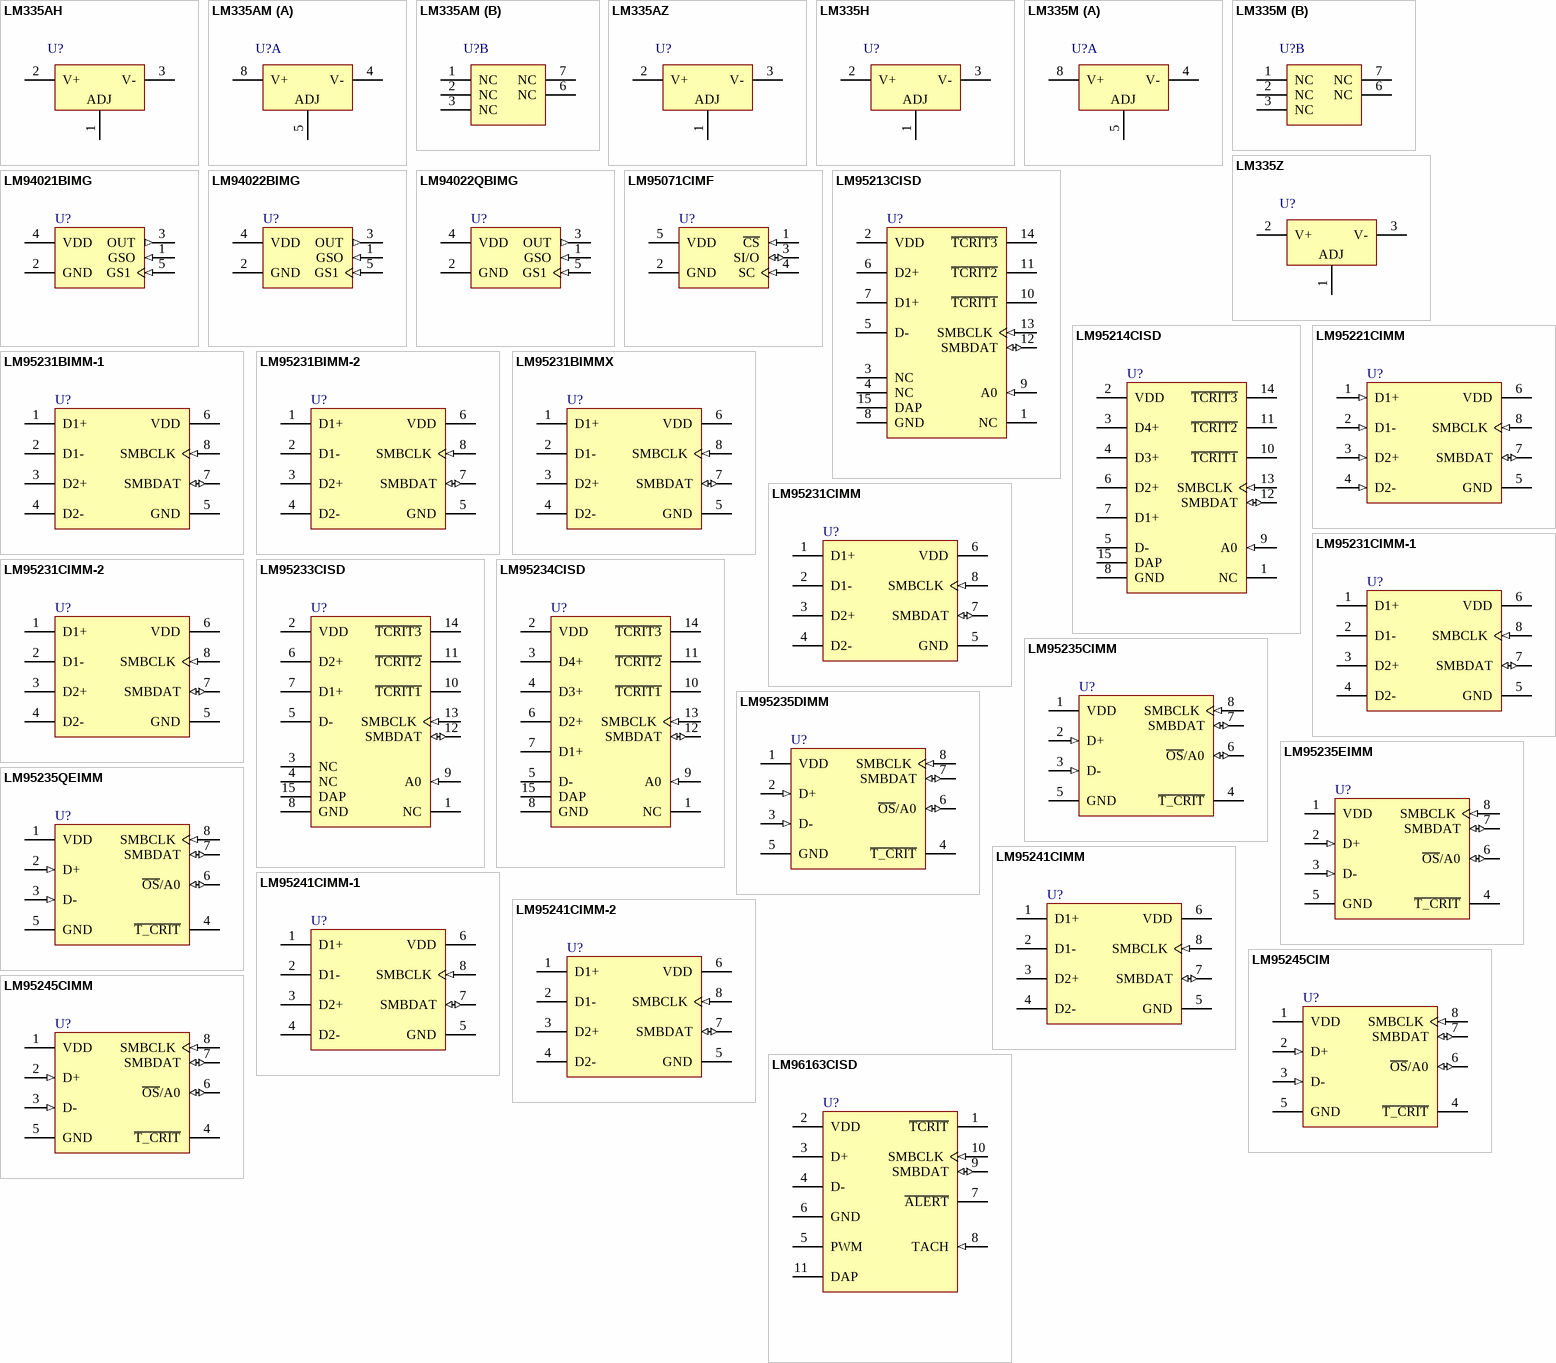
[diagram p2: symbols LM335AH to LM96163CISD]

## LM335AH
designator U?
Precision Temperature Sensor; PartNumber: LM335AH; Manufacturer: National Semiconductor; CompType: Temp Sensor IC; PackageTopMarking: NSXYTTE# LM335AH; PowerWise: N; MilaeroCode: 2MC; Published: 29-May-2009; DatasheetVersion: Dec-2008; PackageVersion: revF, Apr-2002; PackageReference: H03H; Publisher: Altium Limited; PackageDescription: Metal Can, TO-46, 3 Lead, .100in Dia, P.C.; RoHS: O; PinCount: 3; DigiKeyPartNumber: LM335AH-ND; Code_JEDEC: TO-46; ComponentLink1Description: LM335A Datasheet; ComponentLink1URL: http://www.national.com/ds/LM/LM335A.pdf; ComponentLink2Description: LM335A Web Page; ComponentLink2URL: http://www.national.com/pf/LM/LM335A.html; ComponentLink3Description: H03H Package Page; ComponentLink3URL: http://www.national.com/packaging/folders/h03h.html
footprint H03H (Can; 3 Leads; Pin Circle Dia. 2.54 mm; Lead Dia. 0.48 mm (max))
pins: 1 ADJ, 2 V+, 3 V-

## LM335AM
designator U?
Precision Temperature Sensor; PartNumber: LM335AM; Manufacturer: National Semiconductor; CompType: Temp Sensor IC; PackageTopMarking: NSZXTT*LM335*AM; PowerWise: N; Published: 29-May-2009; DatasheetVersion: Dec-2008; PackageVersion: revL, Sep-2006; PackageReference: M08A; Publisher: Altium Limited; PackageDescription: SOIC Narrow, 4.9 x 3.9 x 1.45mm, 8 Lead, 1.27mm Pitch; RoHS: O; PinCount: 8; DigiKeyPartNumber: LM335AM-ND; Code_JEDEC: MS-012-AA; Code_IPC: SOIC127P600-8; ComponentLink1Description: LM335A Datasheet; ComponentLink1URL: http://www.national.com/ds/LM/LM335.pdf; ComponentLink2Description: LM335A Web Page; ComponentLink2URL: http://www.national.com/pf/LM/LM335A.html; ComponentLink3Description: M08A Package Page; ComponentLink3URL: http://www.national.com/packaging/folders/m08a.html
footprint M08A_N (SOIC, 8-Leads, Body 4.9x3.9mm, Pitch 1.27mm, IPC Medium Density)
footprint M08A_L (SOIC, 8-Leads, Body 4.9x3.9mm, Pitch 1.27mm, IPC High Density)
footprint M08A_M (SOIC, 8-Leads, Body 4.9x3.9mm, Pitch 1.27mm, IPC Low Density)
part A pins: 4 V-, 5 ADJ, 8 V+
part B pins: 1 NC, 2 NC, 3 NC, 6 NC, 7 NC

## LM335AZ
designator U?
Precision Temperature Sensor; PartNumber: LM335AZ; Manufacturer: National Semiconductor; CompType: Temp Sensor IC; PackageTopMarking: NSXYTT*LM335*AZ; PowerWise: N; Published: 29-May-2009; DatasheetVersion: Dec-2008; PackageVersion: revG, Sep-2000; PackageReference: Z03A; Publisher: Altium Limited; PackageDescription: TO-92, Molded, 3 Lead; RoHS: O; PinCount: 3; DigiKeyPartNumber: LM335AZ-ND; Code_JEDEC: TO-226-AA; ComponentLink1Description: LM335A Datasheet; ComponentLink1URL: http://www.national.com/ds/LM/LM335.pdf; ComponentLink2Description: LM335A Web Page; ComponentLink2URL: http://www.national.com/pf/LM/LM335A.html; ComponentLink3Description: Z03A Package Page; ComponentLink3URL: http://www.national.com/packaging/folders/z03a.html
footprint Z03A (TO, Flat Index; 3 In-Line, Axial Leads; Body Dia. 5mm; Leads 0.55 x 0.50 mm (max))
pins: 1 ADJ, 2 V+, 3 V-

## LM335H
designator U?
Precision Temperature Sensor; PartNumber: LM335H; Manufacturer: National Semiconductor; CompType: Temp Sensor IC; PackageTopMarking: NSXYTTE# LM335H; PowerWise: N; MilaeroCode: 2MC; Published: 29-May-2009; DatasheetVersion: Dec-2008; PackageVersion: revF, Apr-2002; PackageReference: H03H; Publisher: Altium Limited; PackageDescription: Metal Can, TO-46, 3 Lead, .100in Dia, P.C.; RoHS: O; PinCount: 3; DigiKeyPartNumber: LM335H-ND; Code_JEDEC: TO-46; ComponentLink1Description: LM335 Datasheet; ComponentLink1URL: http://www.national.com/ds/LM/LM335.pdf; ComponentLink2Description: LM335 Web Page; ComponentLink2URL: http://www.national.com/pf/LM/LM335.html; ComponentLink3Description: H03H Package Page; ComponentLink3URL: http://www.national.com/packaging/folders/h03h.html
footprint H03H (Can; 3 Leads; Pin Circle Dia. 2.54 mm; Lead Dia. 0.48 mm (max))
pins: 1 ADJ, 2 V+, 3 V-

## LM335M
designator U?
Precision Temperature Sensor; PartNumber: LM335M; Manufacturer: National Semiconductor; CompType: Temp Sensor IC; PackageTopMarking: NSZXTT*LM335*M; PowerWise: N; Published: 29-May-2009; DatasheetVersion: Dec-2008; PackageVersion: revL, Sep-2006; PackageReference: M08A; Publisher: Altium Limited; PackageDescription: SOIC Narrow, 4.9 x 3.9 x 1.45mm, 8 Lead, 1.27mm Pitch; RoHS: O; PinCount: 8; DigiKeyPartNumber: LM335M-ND; Code_JEDEC: MS-012-AA; Code_IPC: SOIC127P600-8; ComponentLink1Description: LM335 Datasheet; ComponentLink1URL: http://www.national.com/ds/LM/LM335.pdf; ComponentLink2Description: LM335 Web Page; ComponentLink2URL: http://www.national.com/pf/LM/LM335.html; ComponentLink3Description: M08A Package Page; ComponentLink3URL: http://www.national.com/packaging/folders/m08a.html
footprint M08A_N (SOIC, 8-Leads, Body 4.9x3.9mm, Pitch 1.27mm, IPC Medium Density)
footprint M08A_L (SOIC, 8-Leads, Body 4.9x3.9mm, Pitch 1.27mm, IPC High Density)
footprint M08A_M (SOIC, 8-Leads, Body 4.9x3.9mm, Pitch 1.27mm, IPC Low Density)
part A pins: 4 V-, 5 ADJ, 8 V+
part B pins: 1 NC, 2 NC, 3 NC, 6 NC, 7 NC

## LM335Z
designator U?
Precision Temperature Sensor; PartNumber: LM335Z; Manufacturer: National Semiconductor; CompType: Temp Sensor IC; PackageTopMarking: NSXYTT*LM335*Z; PowerWise: N; Published: 29-May-2009; DatasheetVersion: Dec-2008; PackageVersion: revG, Sep-2000; PackageReference: Z03A; Publisher: Altium Limited; PackageDescription: TO-92, Molded, 3 Lead; RoHS: O; PinCount: 3; DigiKeyPartNumber: LM335ZNS-ND; Code_JEDEC: TO-226-AA; ComponentLink1Description: LM335 Datasheet; ComponentLink1URL: http://www.national.com/ds/LM/LM335.pdf; ComponentLink2Description: LM335 Web Page; ComponentLink2URL: http://www.national.com/pf/LM/LM335.html; ComponentLink3Description: Z03A Package Page; ComponentLink3URL: http://www.national.com/packaging/folders/z03a.html
footprint Z03A (TO, Flat Index; 3 In-Line, Axial Leads; Body Dia. 5mm; Leads 0.55 x 0.50 mm (max))
pins: 1 ADJ, 2 V+, 3 V-

## LM94021BIMG
designator U?
Multi-Gain Analog Temperature Sensor; PartNumber: LM94021BIMG; Manufacturer: National Semiconductor; CompType: Temp Sensor IC; PackageTopMarking: 21B*XTT; PowerWise: Y; Published: 4-Dec-2008; DatasheetVersion: Feb-2005; PackageVersion: revD, Jun-2007; PackageReference: MAA05A; Publisher: Altium Limited; PackageDescription: Molded SC-70, 2 x 1.25 x .9mm, 5 Lead, 0.65mm Pitch; RoHS: Y; PinCount: 5; DigiKeyPartNumber: LM94021BIMGCT-ND; Code_JEITA: SC-88A; Code_JEDEC: MO-203-AA; Code_IPC: SOT353-5; ComponentLink1Description: LM94021 Datasheet; ComponentLink1URL: http://www.national.com/ds/LM/LM94021.pdf; ComponentLink2Description: LM94021 Web Page; ComponentLink2URL: http://www.national.com/pf/LM/LM94021.html; ComponentLink3Description: MAA05A Package Page; ComponentLink3URL: http://www.national.com/packaging/folders/maa05a.html
footprint MAA05A_N (SOT353, 5-Leads, Body 2x1.3mm, Pitch 0.65mm, Lead Span 2.1mm, IPC Medium Density)
footprint MAA05A_L (SOT353, 5-Leads, Body 2x1.3mm, Pitch 0.65mm, Lead Span 2.1mm, IPC High Density)
footprint MAA05A_M (SOT353, 5-Leads, Body 2x1.3mm, Pitch 0.65mm, Lead Span 2.1mm, IPC Low Density)
pins: 1 GSO (in), 2 GND (power), 3 OUT (out), 4 VDD (power), 5 GS1 (in)

## LM94022BIMG
designator U?
1.5V, SC70, Multi-Gain Analog Temperature Sensor with Class-AB Output; PartNumber: LM94022BIMG; Manufacturer: National Semiconductor; CompType: Temp Sensor IC; PackageTopMarking: 22B*XTT; PowerWise: Y; Published: 4-Dec-2008; DatasheetVersion: Dec-2007; PackageVersion: revD, Jun-2007; PackageReference: MAA05A; Publisher: Altium Limited; PackageDescription: Molded SC-70, 2 x 1.25 x .9mm, 5 Lead, 0.65mm Pitch; RoHS: O; PinCount: 5; DigiKeyPartNumber: LM94022BIMGCT-ND; Code_JEITA: SC-88A; Code_JEDEC: MO-203-AA; Code_IPC: SOT353-5; ComponentLink1Description: LM94022 Datasheet; ComponentLink1URL: http://www.national.com/ds/LM/LM94022.pdf; ComponentLink2Description: LM94022 Web Page; ComponentLink2URL: http://www.national.com/pf/LM/LM94022.html; ComponentLink3Description: MAA05A Package Page; ComponentLink3URL: http://www.national.com/packaging/folders/maa05a.html
footprint MAA05A_N (SOT353, 5-Leads, Body 2x1.3mm, Pitch 0.65mm, Lead Span 2.1mm, IPC Medium Density)
footprint MAA05A_L (SOT353, 5-Leads, Body 2x1.3mm, Pitch 0.65mm, Lead Span 2.1mm, IPC High Density)
footprint MAA05A_M (SOT353, 5-Leads, Body 2x1.3mm, Pitch 0.65mm, Lead Span 2.1mm, IPC Low Density)
pins: 1 GSO (in), 2 GND (power), 3 OUT (out), 4 VDD (power), 5 GS1 (in)